# Altium footprint library ceramic capacior.PcbLib: 1 footprints
Each footprint in its own frame and in the unit in brackets; x right, y up, seen from the top. Pads: shape width x height; smd on the part's side, far side on the other; paste and mask are expansions set on the pad; w line width, h text height; cw(c..) or ccw(c..) is an arc to the next point about the centre after c.
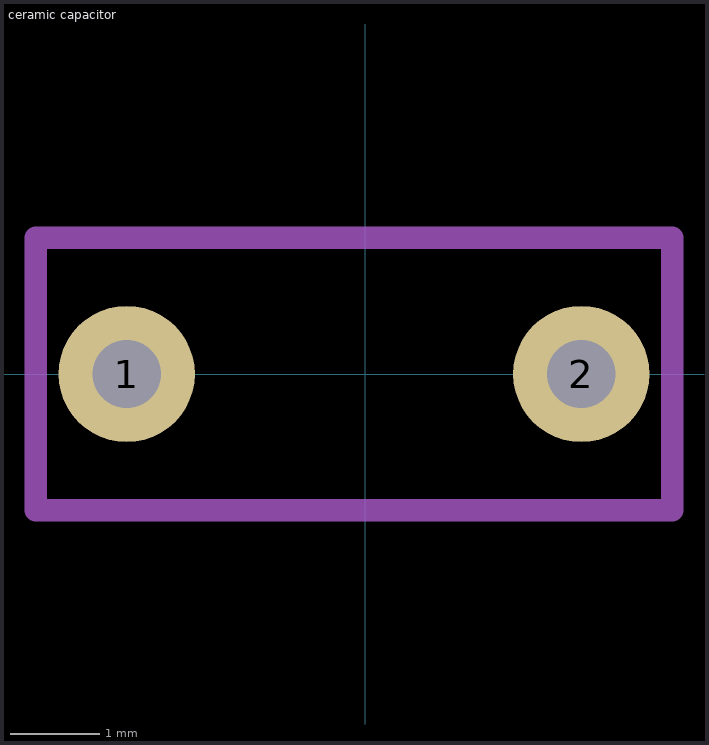
[diagram p0: the footprint, top view; thin cyan lines are the x and y axes]

## ceramic capacitor [mil]
pads (2):
  round 60 hole 30: 1(-105,0) 2(95,0)
Mechanical 1:
  lines w10: -145,-60 135,-60 135,60 -145,60 -145,-60